# Altium footprint library AXIAL_DIO_0.5.PcbLib: 1 footprints
Each footprint in its own frame and in the unit in brackets; x right, y up, seen from the top. Pads: shape width x height; smd on the part's side, far side on the other; paste and mask are expansions set on the pad; w line width, h text height; cw(c..) or ccw(c..) is an arc to the next point about the centre after c.
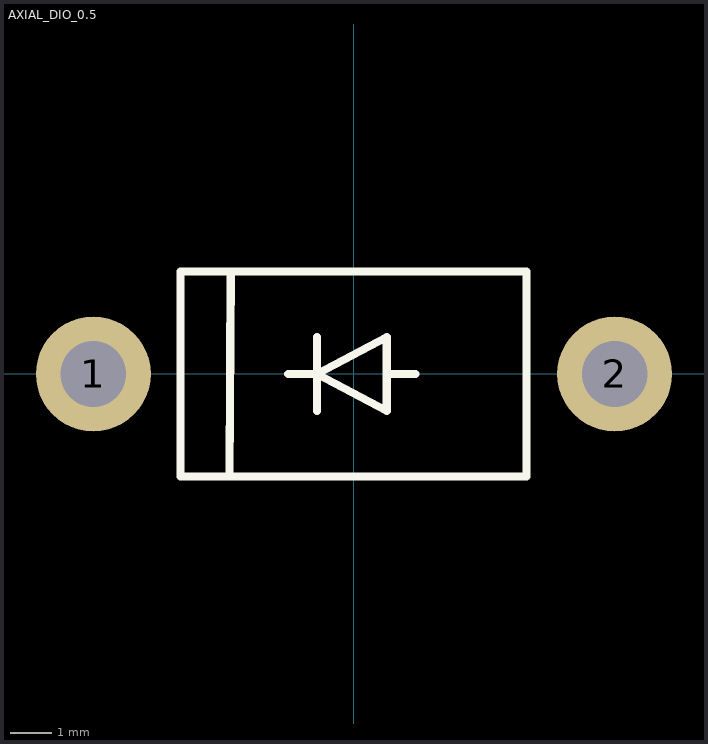
[diagram p0: the footprint, top view; thin cyan lines are the x and y axes]

## AXIAL_DIO_0.5 [mm] "Axial Diode 0.4\" lead spacing"
pads (2):
  round 2.8 hole 1.6: 1(-6.35,0) 2(6.35,0)
Top Overlay:
  lines w0.2: -4.225,-2.5 -4.225,2.5 ; -4.2,-2.5 4.2,-2.5 4.2,2.5 -4.2,2.5 ; -3.034,-2.5 -3,2.5 ; -1.6,0 -0.9,0 ; -0.9,-0.9 -0.9,0.9 ; 0.8,0 1.5,0 ; -0.9,0 0.8,-0.9 0.8,0.9 -0.9,0
3D body "AXIAL_DIO_0.5.SLDPRT": height 5.1, standoff -1.8, extent -6.974,-2.5 6.974,2.5